# Altium schematic symbol library BLM21PG221SN1D.SchLib: 1 symbol
Pins are listed as number, name and electrical type; pins without a type are passive.

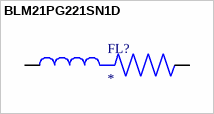
[diagram p0: symbol BLM21PG221SN1D]

## BLM21PG221SN1D
designator FL?
FERRITE BEAD, 0805 CASE, 220OHM; Inductor Type:Ferrite Bead; Series:BLM21; Resistance:0.05ohm; DC Current Max:2000mA; Case Style:0805; Core Material:Ferrite; Temp, Op. Max:+125Â°C; Temp, Op. Min:-55Â°C; Typ Impedance @ 100MHz:220ohm; MP: BLM21PG221SN1D; Package: None; Price: None; Availability: Unavailable; Value: *
footprint BEADC2012X105N
pins: 1, 2